# Altium footprint library JLCPCB_XTAL_RESONATOR_Packages.PcbLib: 1 footprints
Each footprint in its own frame and in the unit in brackets; x right, y up, seen from the top. Pads: shape width x height; smd on the part's side, far side on the other; paste and mask are expansions set on the pad; w line width, h text height; cw(c..) or ccw(c..) is an arc to the next point about the centre after c.
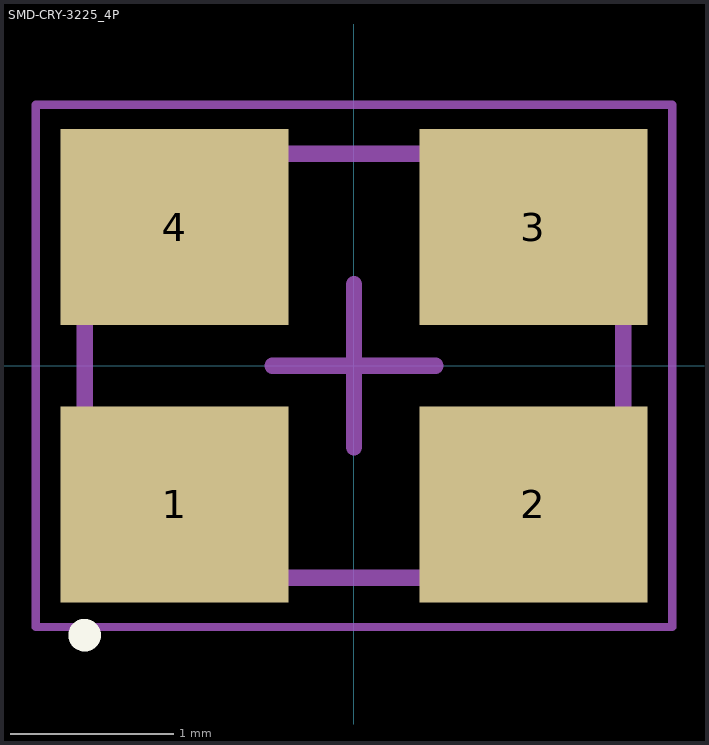
[diagram p0: the footprint, top view; thin cyan lines are the x and y axes]

## SMD-CRY-3225_4P [mm] "DFN, 4-Leads, Body 2,50x3,20mm, Pitch 2,00mm, IPC Medium Density"
height 0.8
pads (4):
  rect 1.4x1.2 smd mask+0.055: 1(-1.1,-0.85) 2(1.1,-0.85) 3(1.1,0.85) 4(-1.1,0.85)
Top Overlay:
  circle w0.1: c-1.651,-1.651 r0.05
Mechanical 13:
  lines w0.1: -1.65,-1.3 1.65,-1.3 1.65,1.3 -1.65,1.3 -1.65,-1.3
Mechanical 15:
  lines w0.05: -1.95,-1.6 1.95,-1.6 1.95,1.6 -1.95,1.6 -1.95,-1.6
  lines w0.1: -0.5,0 0.5,0 ; 0,-0.5 0,0.5
3D body: height 0.8, standoff 0, extent -1.65,-1.3 1.65,1.3